# EAGLE library part CC2564MODA (library texas-instruments)
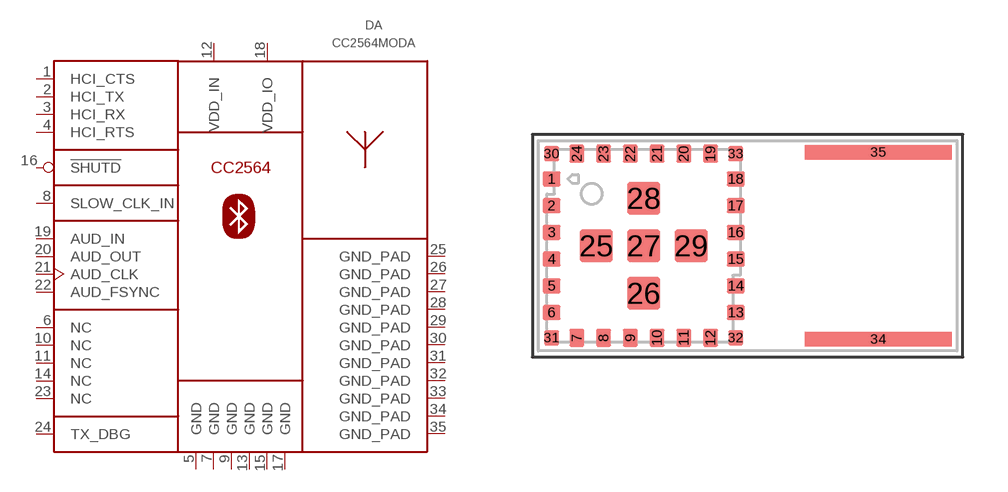
[diagram p31: symbol with the pads of CC2564MODA; footprint CC2564MODA]

Designator prefix DA

## CC2564MODA  [CC2564MODA]
1  HCI_CTS  in
2  HCI_TX  out
3  HCI_RX  in
4  HCI_RTS  out
5  GND  pwr
6  NC  nc
7  GND  pwr
8  SLOW_CLK_IN  in
9  GND  pwr
10  NC  nc
11  NC  nc
12  VDD_IN  pwr
13  GND  pwr
14  NC  nc
15  GND  pwr
16  !SHUTD  in
17  GND  pwr
18  VDD_IO  pwr
19  AUD_IN  in
20  AUD_OUT  out
21  AUD_CLK  in
22  AUD_FSYNC  in
23  NC  nc
24  TX_DBG  out
25  GND_PAD  pwr
26  GND_PAD  pwr
27  GND_PAD  pwr
28  GND_PAD  pwr
29  GND_PAD  pwr
30  GND_PAD  pwr
31  GND_PAD  pwr
32  GND_PAD  pwr
33  GND_PAD  pwr
34  GND_PAD  pwr
35  GND_PAD  pwr

## Footprint CC2564MODA (pad centres in mm)
smd 0.6 x 0.5: 1 -3.1,2.25; 2 -3.1,1.35; 3 -3.1,0.45; 4 -3.1,-0.45; 5 -3.1,-1.35; 6 -3.1,-2.25; 13 3.1,-2.25; 14 3.1,-1.35; 15 3.1,-0.45; 16 3.1,0.45; 17 3.1,1.35; 18 3.1,2.25
smd 0.5 x 0.6: 7 -2.25,-3.1; 8 -1.35,-3.1; 9 -0.45,-3.1; 10 0.45,-3.1; 11 1.35,-3.1; 12 2.25,-3.1; 19 2.25,3.1; 20 1.35,3.1; 21 0.45,3.1; 22 -0.45,3.1; 23 -1.35,3.1; 24 -2.25,3.1
smd 1.1 x 1.1: 25 -1.6,0; 26 0,-1.6; 27 0,0; 28 0,1.6; 29 1.6,0
smd 0.5 x 0.5: 30 -3.1,3.1; 31 -3.1,-3.1; 32 3.1,-3.1; 33 3.1,3.1
smd 4.95 x 0.48: 34 7.9,-3.15; 35 7.9,3.15